# Altium footprint library HTSSOP38.PcbLib: 1 footprints
Each footprint in its own frame and in the unit in brackets; x right, y up, seen from the top. Pads: shape width x height; smd on the part's side, far side on the other; paste and mask are expansions set on the pad; w line width, h text height; cw(c..) or ccw(c..) is an arc to the next point about the centre after c.
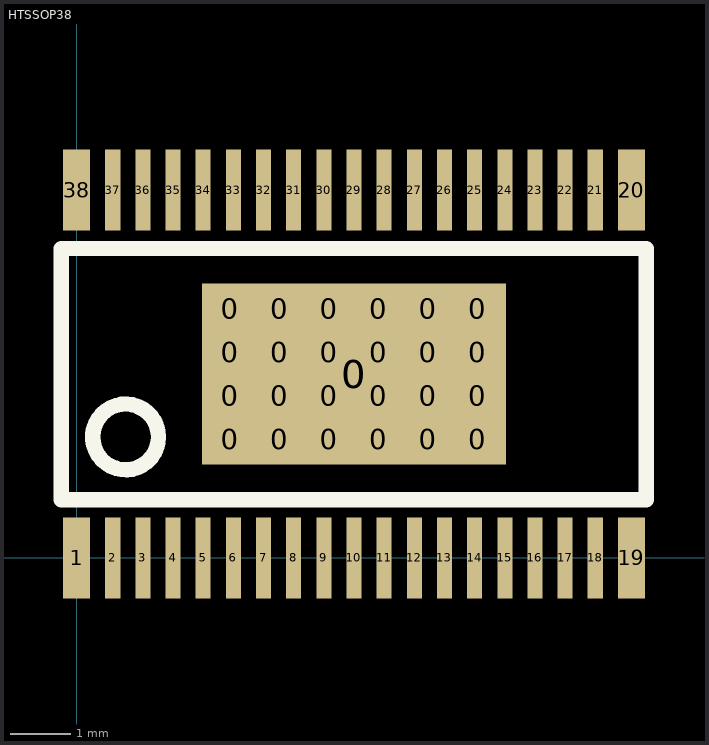
[diagram p0: the footprint, top view; thin cyan lines are the x and y axes]

## HTSSOP38 [mm]
pads (63):
  rect 0.7x0.6 smd paste+0 mask+0: 0(2.549,1.97) 0(2.549,2.69) 0(2.549,3.41) 0(2.549,4.13) 0(3.369,1.97) 0(3.369,2.69) 0(3.369,3.41) 0(3.369,4.13) 0(4.189,1.97) 0(4.189,2.69) 0(4.189,3.41) 0(4.189,4.13) 0(5.009,1.97) 0(5.009,2.69) 0(5.009,3.41) 0(5.009,4.13) 0(5.829,1.97) 0(5.829,2.69) 0(5.829,3.41) 0(5.829,4.13) 0(6.649,1.97) 0(6.649,2.69) 0(6.649,3.41) 0(6.649,4.13)
  rect 5.04x3 smd paste-10 mask+0.075: 0(4.6,3.05)
  rect 0.45x1.35 smd paste+0 mask+0.075: 1(0,0) 19(9.2,0) 20(9.2,6.1) 38(0,6.1)
  rect 0.25x1.35 smd paste+0 mask+0.075: 2(0.6,0) 3(1.1,0) 4(1.6,0) 5(2.1,0) 6(2.6,0) 7(3.1,0) 8(3.6,0) 9(4.1,0) 10(4.6,0) 11(5.1,0) 12(5.6,0) 13(6.1,0) 14(6.6,0) 15(7.1,0) 16(7.6,0) 17(8.1,0) 18(8.6,0) 21(8.6,6.1) 22(8.1,6.1) 23(7.6,6.1) 24(7.1,6.1) 25(6.6,6.1) 26(6.1,6.1) 27(5.6,6.1) 28(5.1,6.1) 29(4.6,6.1) 30(4.1,6.1) 31(3.6,6.1) 32(3.1,6.1) 33(2.6,6.1) 34(2.1,6.1) 35(1.6,6.1) 36(1.1,6.1) 37(0.6,6.1)
Top Overlay:
  circle w0.254: c0.813,2.007 r0.545
  lines w0.254: -0.254,0.965 -0.254,5.131 9.446,5.131 9.446,0.965 -0.254,0.965
3D body: height 1, standoff 0.1, extent -0.381,0.838 9.573,5.258